# EAGLE library part TINY45 (library dl)
8-bit-Mikrocontroller Harvard-Architektur; hier Sonderdarstellung für 3x A/D-Wandler (Ue = 0..2,5 V) Hier wesentliche Features: 5 V Betriebsspannung interner RC-Oszillator mit 16,5 MHz Taktfrequenz 2/4/8 K Flash 128/256/512 Bytes RAM Watchdog-Timer Firmware basiert auf V-USB mit HID USB-konformer Schlafmodus mit < 1 µA Stromaufnahme passt in den USB-Stecker
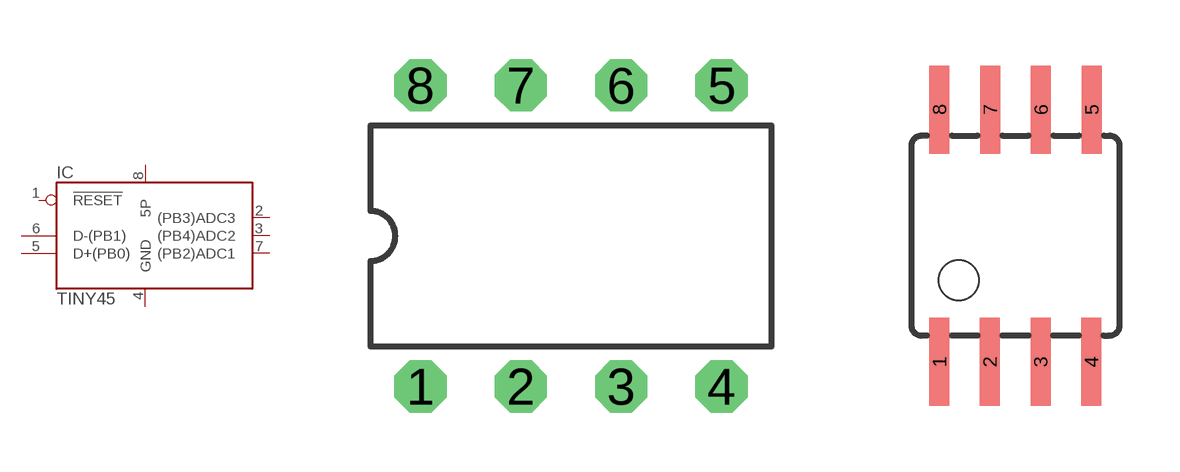
[diagram p9: symbol with the pads of DIL08; footprints DIL08, SOIC8]

Designator prefix IC

## TINY45P  [DIL08]
1  !RESET
2  (PB3)ADC3  in
3  (PB4)ADC2  in
4  GND  pwr
5  D+(PB0)
6  D-(PB1)
7  (PB2)ADC1  in
8  5P  pwr

## TINY45S  [SOIC8]
Pads as for DIL08

## Footprint DIL08 (pad centres in mm)
Durchsteck-Gehäuse, zweireihig, e=2,54, w=7,62 Kurze Pins mit Pin1
drill 0.813 octagon: 1 -3.81,-3.81; 2 -1.27,-3.81; 3 1.27,-3.81; 4 3.81,-3.81; 5 3.81,3.81; 6 1.27,3.81; 7 -1.27,3.81; 8 -3.81,3.81

## Footprint SOIC8 (pad centres in mm)
SMD-Gehäuse, zweireihig, e=1,27, w=5,08
smd 0.5 x 2.2: 1 -1.905,-3.154; 2 -0.645,-3.154; 3 0.625,-3.154; 4 1.895,-3.154; 5 1.905,3.154; 6 0.635,3.154; 7 -0.635,3.154; 8 -1.905,3.154